# Altium schematic symbol library Schlib1.SchLib: 40 symbols (part 1 of 2)
Pins are listed as number, name and electrical type; pins without a type are passive.

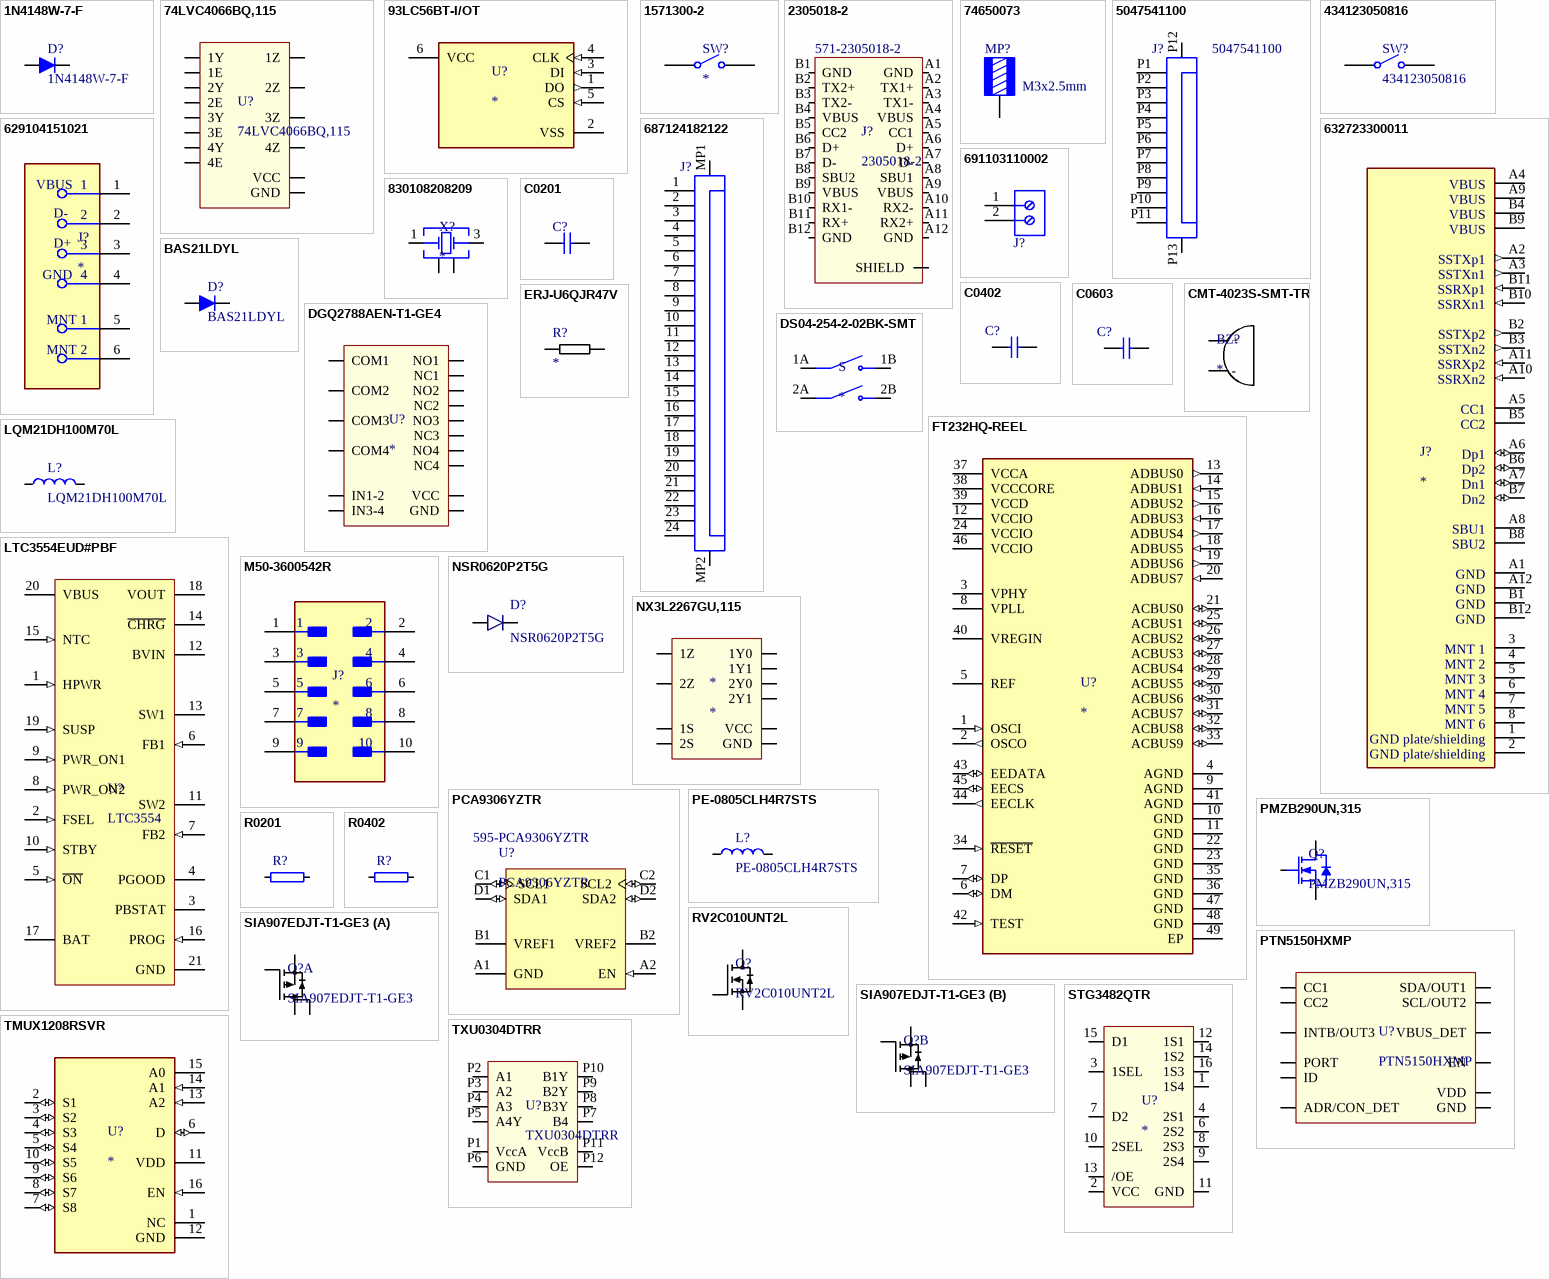
[diagram p0: symbols 1N4148W-7-F to TXU0304DTRR]

## 1N4148W-7-F
designator D?
VR=100V IF=300mA Trr=4ns P=400mW; Manufacturer: Diodes; Forward Current: 150mA; Reverse Recovery Time: 4ns; Max Repetitive Reverse Voltage (Vrrm): 100V; Max Forward Surge Current (Ifsm): 2A; Element Configuration: Single; Max Reverse Current: 1uA; Forward Voltage: 1.25V; Average Rectified Current: 300mA; Power Dissipation: 400mW; Polarity: Standard; Voltage Rating (DC): 75V; Capacitance: 2pF; Supplier 1: Mouser; Manufacturer Part Number: 1N4148W-7-F; RoHS: Yes; Category: Rectifier Diodes; Pricing 1: 1=0.18000, 10=0.16800, 50=0.16800, 100=0.09200, 500=0.05700, 1000=0.03900, 3000=0.02900, 9000=0.02500, 10000=0.02500, 24000=0.02200, 45000=0.01800 (USD); Mount: Surface Mount; Number of Pins: 2; Weight: 0.000353oz; Contact Plating: Tin,Matte; Min Operating Temperature: -65°C; Max Operating Temperature: 150°C; Packaging: Tape and Reel; Peak Non-Repetitive Surge Current: 2A; Voltage: 100V; Max Surge Current: 2A; Package Quantity: 3000; Recovery Time: 4ns; Power Rating: 400mW; Current Rating: 150mA; Output Current: 150mA; Max Reverse Voltage (DC): 100V; Series: -; Reverse Recovery Time-Max: 4ns; Length: 2.85mm; Width: 1.7mm; Height: 1.25mm; Radiation Hardening: No; REACH SVHC: No SVHC; RoHS Compliant: Yes; Lead Free: Lead Free; ComponentLink1URL: https://datasheet.ciiva.com/1179/1915529-1179304.pdf?src-supplier=Element14; ComponentLink1Description: https://datasheet.ciiva.com/1179/1915529-1179304.pdf?src-supplier=Element14; ComponentLink2URL: https://datasheet.ciiva.com/22695/1915529-22695239.pdf?src-supplier=Element14; ComponentLink2Description: https://datasheet.ciiva.com/22695/1915529-22695239.pdf?src-supplier=Element14; ComponentLink3URL: https://datasheet.ciiva.com/8300/ds30086-8300392.pdf?src-supplier=Avnet; ComponentLink3Description: https://datasheet.ciiva.com/8300/ds30086-8300392.pdf?src-supplier=Avnet; ComponentLink4URL: https://datasheet.ciiva.com/15219/getdatasheetpartid-110030-15219548.pdf?src-supplier=Verical; ComponentLink4Description: https://datasheet.ciiva.com/15219/getdatasheetpartid-110030-15219548.pdf?src-supplier=Verical; ComponentLink5URL: https://datasheet.ciiva.com/8303/ds30086-8303197.pdf?src-supplier=Avnet; ComponentLink5Description: https://datasheet.ciiva.com/8303/ds30086-8303197.pdf?src-supplier=Avnet; ComponentLink6URL: https://datasheet.ciiva.com/911/ds30086-911735.pdf?src-supplier=Digi-Key; ComponentLink6Description: https://datasheet.ciiva.com/911/ds30086-911735.pdf?src-supplier=Digi-Key; ComponentLink7URL: https://datasheet.ciiva.com/911/ds30086-911736.pdf?src-supplier=Digi-Key; ComponentLink7Description: https://datasheet.ciiva.com/911/ds30086-911736.pdf?src-supplier=Digi-Key; ComponentLink8URL: https://datasheet.ciiva.com/911/ds30086-911734.pdf?src-supplier=Digi-Key; ComponentLink8Description: https://datasheet.ciiva.com/911/ds30086-911734.pdf?src-supplier=Digi-Key; ComponentLink9URL: https://datasheet.ciiva.com/4435/ds30086-4435128.pdf?src-supplier=Mouser; ComponentLink9Description: https://datasheet.ciiva.com/4435/ds30086-4435128.pdf?src-supplier=Mouser; Supplier Part Number 1: 621-1N4148W-F
footprint DIOD-SOD123-2_V (SOD123, 2-Leads, Body 2.7x1.55mm, Height 1.45mm)
pins: 1 A, 2 K

## 74LVC4066BQ,115
designator U?
74LVC Series 5.5 V Quad Bilateral Switch - DHVQFN-14; Manufacturer: Nexperia; Supplier 1: Mouser; Manufacturer Part Number: 74LVC4066BQ,115; RoHS: Yes; Category: Decoders and Multiplexers; Stock 1: 3323; Pricing 1: 1=0.67000, 10=0.56700, 50=0.56700, 100=0.44600, 1000=0.29700, 10000=0.28800 (USD); ComponentLink1URL: https://assets.nexperia.com/documents/data-sheet/74LVC4066.pdf?src-supplier=Digi-Key; ComponentLink1Description: https://assets.nexperia.com/documents/data-sheet/74LVC4066.pdf?src-supplier=Digi-Key; Supplier Part Number 1: 771-LVC4066BQ115
footprint 74LVC4066BQ,115 (Analogue Switch ICs QUAD ANALOG SW.); pin to pad P7>P7+P15
pins: P1 1Y, P2 1Z, P3 2Z, P4 2Y, P5 2E, P6 3E, P7 GND, P8 3Y, P9 3Z, P10 4Z, P11 4Y, P12 4E, P13 1E, P14 VCC

## 93LC56BT-I/OT
designator U?
RES 1 OHM 1/2W 5% AXIAL; Manufacturer: Microchip; Manufacturer Part Number: 93LC56BT-I/OT; Density: 2Kb; Max Supply Voltage: 5.5V; Min Supply Voltage: 2.5V; Interface: MICROWIRE,Serial; Max Frequency: 2MHz; Organization: 128X16; Access Time: 250ns; Nominal Supply Current: 2mA; Memory Type: EEPROM; Write Protection: YES; Write Cycle Time-Max (tWC): 6ms; Supplier 1: Mouser; RoHS: No; Category: EEPROM; Pricing 1: 1=0.32000, 10=0.32000, 50=0.32000, 100=0.32000, 1000=0.32000, 10000=0.32000 (USD); Mount: Surface Mount; Case/Package: SOT-23; Number of Pins: 6; Contact Plating: Tin,Matte; Min Operating Temperature: -40°C; Max Operating Temperature: 85°C; Packaging: Tape and Reel; Package Quantity: 3000; Memory Size: 2Kb; Frequency: 2MHz; Access Time-Max: 250ns; Supply Current: 2mA; Supply Voltage-Nom: 5.5V; Length: 3.1mm; Width: 1.8mm; Height: 1.3mm; Radiation Hardening: No; REACH SVHC: No SVHC; Lead Free: Lead Free; ComponentLink1URL: https://datasheet.ciiva.com/3185/jp013939-3185519.pdf?src-supplier=Avnet; ComponentLink1Description: https://datasheet.ciiva.com/3185/jp013939-3185519.pdf?src-supplier=Avnet; ComponentLink2URL: https://datasheet.ciiva.com/16216/filehandler-aspxddocname-en013939-16216574.pdf?src-supplier=Future+Electronics; ComponentLink2Description: https://datasheet.ciiva.com/16216/filehandler-aspxddocname-en013939-16216574.pdf?src-supplier=Future+Electronics; ComponentLink3URL: https://datasheet.ciiva.com/48496/jp013939-48496476.pdf?src-supplier=Avnet; ComponentLink3Description: https://datasheet.ciiva.com/48496/jp013939-48496476.pdf?src-supplier=Avnet; Supplier Part Number 1: 579-93LC56BT-I/OT
footprint 93LC56BT-I/OT_sot23-6
pins: 1 DO (out), 2 VSS (power), 3 DI (in), 4 CLK (in), 5 CS (in), 6 VCC (power)

## 1571300-2
designator SW?
Switch Tactile OFF (ON) SPST Round Button Gull Wing 0.05A 12VDC 1.27N SMD Loose Piece; Manufacturer: TE Connectivity; Manufacturer Part Number: 1571300-2; Supplier 1: Mouser; RoHS: Yes; Category: Pushbutton Switches; Stock 1: 17816; Pricing 1: 1=0.69000, 10=0.66000, 50=0.62500, 100=0.55100, 1000=0.41800, 10000=0.39300 (USD); ComponentLink1URL: https://datasheet.ciiva.com/2901/eng-cd-1571300-j-2901544.pdf?src-supplier=Digi-Key; ComponentLink1Description: https://datasheet.ciiva.com/2901/eng-cd-1571300-j-2901544.pdf?src-supplier=Digi-Key; ComponentLink2URL: https://datasheet.ciiva.com/30102/eng-cat-1308390-0904-e26-e28-30102661.pdf?src-supplier=Onlinecomponents.com; ComponentLink2Description: https://datasheet.ciiva.com/30102/eng-cat-1308390-0904-e26-e28-30102661.pdf?src-supplier=Onlinecomponents.com; ComponentLink3URL: https://datasheet.ciiva.com/15226/getdatasheetpartid-240878-15226635.pdf?src-supplier=Verical; ComponentLink3Description: https://datasheet.ciiva.com/15226/getdatasheetpartid-240878-15226635.pdf?src-supplier=Verical; ComponentLink4URL: https://datasheet.ciiva.com/8164/eng-cs-1308111-1-switches-core-program-catalog-0308-8164774.pdf?src-supplier=Avnet; ComponentLink4Description: https://datasheet.ciiva.com/8164/eng-cs-1308111-1-switches-core-program-catalog-0308-8164774.pdf?src-supplier=Avnet; Supplier Part Number 1: 571-15713002
footprint 1571300-2
pins: P1 1, P2 2

## 2305018-2
designator J?  Supplier Part Number 1: 571-2305018-2
Usb 3.1 Type C, 10GBPS, Receptacle, Rigusb Connectors Usb Type C, Rec IPX8 on Board Dual SMT; Manufacturer: TE Connectivity AMP; Number of Contacts: 24; Number of Ports: 1; Current Rating: 1.25A; Voltage Rating: 30V; Shielding: Shielded; Ratings: Waterproof; Supplier 1: Mouser; Manufacturer Part Number: 2305018-2; RoHS: Yes; Category: USB Connectors; Stock 1: 85836; Pricing 1: 1=3.00000, 10=2.52000, 50=2.52000, 100=2.40000, 250=2.18000, 800=1.85000, 1000=1.85000, 2400=1.77000, 4800=1.71000, 10000=1.77000 (USD); Mount: Surface Mount,Through Hole; Contact Plating: Gold; Insulation Color: Black; Min Operating Temperature: -40°C; Max Operating Temperature: 85°C; Connector Type: USB; Packaging: Tape and Reel; Gender: Receptacle; Termination: Solder; Flammability Rating: UL94 V-0; RoHS Compliant: Yes; ComponentLink1URL: http://www.farnell.com/datasheets/2611889.pdf?src-supplier=Farnell; ComponentLink1Description: http://www.farnell.com/datasheets/2611889.pdf?src-supplier=Farnell; ComponentLink2URL: https://www.te.com/commerce/DocumentDelivery/DDEController?Action=srchrtrv&DocNm=2305018&DocType=Customer+Drawing&DocLang=English&src-supplier=Digi-Key; ComponentLink2Description: https://www.te.com/commerce/DocumentDelivery/DDEController?Action=srchrtrv&DocNm=2305018&DocType=Customer+Drawing&DocLang=English&src-supplier=Digi-Key; ComponentLink3URL: http://www.farnell.com/datasheets/2611889.pdf?src-supplier=Newark; ComponentLink3Description: http://www.farnell.com/datasheets/2611889.pdf?src-supplier=Newark
footprint 2305018-2 (USB TYPE C, REC IPX8 ON BOARD DUAL SMT); pin to pad SH1>SH1+SH2+SH3+SH4+SH5+SH6
pins: A1 GND, A2 TX1+, A3 TX1-, A4 VBUS, A5 CC1, A6 D+, A7 D-, A8 SBU1, A9 VBUS, A10 RX2-, A11 RX2+, A12 GND, B1 GND, B2 TX2+, B3 TX2-, B4 VBUS, B5 CC2, B6 D+, B7 D-, B8 SBU2, B9 VBUS, B10 RX1-, B11 RX+, B12 GND, SH1 SHIELD

## 74650073
designator MP?, comment M3x2.5mm
WP-THRBU REDCUBE THR internal through-hole thread, 7x7mm, M3x2.5mm, 50A; Manufacturer Part Number: 74650073; Manufacturer: Wurth Elektronik; Pin Number: 4; Thread: M3; Surface: Tin; Thread Length: 2.5mm; ComponentLink1Description: Manufacturer; ComponentLink1URL: http://www.we-online.de; ComponentLink2Description: Datasheet; ComponentLink2URL: https://www.we-online.com/catalog/datasheet/74650073.pdf; Operating Temperature: -55 to +150degC; Height: 3mm; Material: Brass; Packaging: Bulk; Mounting Technology: SMT; Rated Current: 50A; Published Date: June 2021; Size: 7x7mm
footprint 74650073
pins: 1

## 5047541100
designator J?
Conn FFC/FPC Connector SKT 11 POS 0.3mm Solder RA SMD Easy-On™ T/R; Manufacturer Part Number: 687124182122; Manufacturer: Wurth Elektronik; Pitch: 0.5mm; Contact Resistance: 30mOhm; Pin Number: 24; Working Voltage: 50VAC; Rated Current: 0.5A; ComponentLink1Description: Manufacturer; ComponentLink1URL: http://www.we-online.de; ComponentLink2Description: Datasheet; ComponentLink2URL: https://katalog.we-online.com/em/datasheet/687124182122.pdf; Packaging: Tape and Reel; Published Date: March 2021; Mounting Technology: SMT; Operating Temperature: -25 to +85degC; Length: 14mm; Type: Horizontal; Supplier 1: Mouser; RoHS: No; Category: FFC / FPC; Stock 1: 21094; Pricing 1: 1=0.78000, 10=0.62000, 50=0.62000, 100=0.51700, 500=0.51200, 1000=0.51200, 5000=0.41900, 10000=0.41100, 25000=0.35200 (USD); ComponentLink3URL: https://www.molex.com/pdm_docs/ps/PS-504754-002.pdf?src-supplier=Digi-Key; ComponentLink3Description: https://www.molex.com/pdm_docs/ps/PS-504754-002.pdf?src-supplier=Digi-Key; Supplier Part Number 1: 538-504754-1100
footprint 5047541100 (Connector FPC11)
pins: P1 1, P2 2, P3 3, P4 4, P5 5, P6 6, P7 7, P8 8, P9 9, P10 10, P11 11, P12 MP1, P13 MP2

## 434123050816
designator SW?
Switch Tactile Spst-no 0.05A 12V; Manufacturer: Wurth Electronics; Mechanical Life: 50000Cycles; Actuator Material: Polymer,Liquid Crystal Polymer; Operating Force: 160gf; Contact Resistance: 100mR; Contact Current Rating: 50mA; Illumination Type: Non-Illuminated,Illuminated; Throw Configuration: SPST; Switch Travel: 0.25mm; Switch Function: Off-Mom; Actuator Length: 1.5mm; Supplier 1: Mouser; Manufacturer Part Number: 434123050816; RoHS: Yes; Category: Tactile Switches; Stock 1: 2599; Pricing 1: 1=0.54000, 10=0.54000, 50=0.54000, 100=0.54000, 750=0.43300, 1000=0.43300, 1500=0.36700, 10000=0.36700 (USD); Mount: Surface Mount; Contact Material: Stainless Steel,Steel; Min Operating Temperature: -40°C; Max Operating Temperature: 85°C; Current Rating: 50mA; Packaging: Tape and Reel; Termination: Solder; Insulation Resistance: 100MR; Series: WS-TASV; Contact Type: 1 maker; Length: 7.2mm; Width: 3.5mm; Height: 5mm; REACH SVHC: No SVHC; Lead Free: Lead Free; RoHS Compliant: Yes; ComponentLink1URL: https://datasheet.ciiva.com/1532/434123043816-1532528.pdf?src-supplier=Element14; ComponentLink1Description: https://datasheet.ciiva.com/1532/434123043816-1532528.pdf?src-supplier=Element14; ComponentLink2URL: https://datasheet.ciiva.com/30466/0900766b8126b636-30466780.pdf?src-supplier=RSComponents; ComponentLink2Description: https://datasheet.ciiva.com/30466/0900766b8126b636-30466780.pdf?src-supplier=RSComponents; ComponentLink3URL: https://datasheet.ciiva.com/29123/711760-da-01-en-taster-434123050816-29123824.pdf?src-supplier=Conrad; ComponentLink3Description: https://datasheet.ciiva.com/29123/711760-da-01-en-taster-434123050816-29123824.pdf?src-supplier=Conrad; ComponentLink4URL: https://datasheet.ciiva.com/1633/434123043816-1633968.pdf?src-supplier=Farnell; ComponentLink4Description: https://datasheet.ciiva.com/1633/434123043816-1633968.pdf?src-supplier=Farnell; ComponentLink5URL: https://datasheet.ciiva.com/22695/434123043816-22695550.pdf?src-supplier=Element14; ComponentLink5Description: https://datasheet.ciiva.com/22695/434123043816-22695550.pdf?src-supplier=Element14; Supplier Part Number 1: 710-434123050816
footprint 434123050816 (6.0*3.5mm vertical type, J-Bend SMD, height 5.0mm, black actuator, 160gf, T&R)
pins: 1, 2

## 629104151021
designator J?
USB 2.0 Type A Receptacle WR-COM, Horizontal, SMT, with Pegs; Manufacturer: Wurth Electronics; Manufacturer Part Number: 629104151021; Number of Contacts: 4; USB Standard: USB 2.0; Supplier 1: Mouser; RoHS: Yes; Category: Connectors; Stock 1: 3535; Pricing 1: 1=2.61000, 10=2.61000, 50=2.39000, 100=2.14000, 300=1.88000, 600=1.87000, 1000=1.87000, 10000=1.87000 (USD); Mount: Surface Mount,Horizontal; Contact Material: Copper Alloy; Contact Plating: Gold; Packaging: Tape and Reel; Connector Type: USB; Gender: Receptacle; Termination: SMD/SMT; Orientation: Right Angle; Features: Shielded; REACH SVHC: Unknown; RoHS Compliant: Yes; ComponentLink1URL: https://datasheet.ciiva.com/48416/629104151021-48416055.pdf?src-supplier=Distrelec; ComponentLink1Description: https://datasheet.ciiva.com/48416/629104151021-48416055.pdf?src-supplier=Distrelec; Supplier Part Number 1: 710-629104151021
footprint FP-629104151021-MFG
pins: 1, 2, 3, 4, 5 MNT 1, 6 MNT 2
text: VBUS; D-; D+; GND

## 632723300011
designator J?
Conn USB 3.1 Type C RCP 24 POS 0.5mm/0.4mm Solder RA SMD/Thru-Hole 24 Terminal 1 Port T/R; Manufacturer: Wurth Electronics; Manufacturer Part Number: 632723300011; Number of Contacts: 24; Gender: Receptacle; Supplier 1: Mouser; RoHS: Yes; Category: Connectors; Stock 1: 33020; Pricing 1: 1=4.37000, 10=4.06000, 50=3.42000, 100=3.15000, 700=2.72000, 1000=2.72000, 1400=2.71000, 10000=2.71000 (USD); Mount: Surface Mount,Through Hole; Packaging: Tape and Reel; Connector Type: USB; RoHS Compliant: Yes; ComponentLink1URL: https://www.mouser.com/ds/2/445/632723x00011-782157.pdf?src-supplier=Mouser; ComponentLink1Description: https://www.mouser.com/ds/2/445/632723x00011-782157.pdf?src-supplier=Mouser; ComponentLink2URL: https://katalog.we-online.de/em/datasheet/632723x00011.pdf?src-supplier=Digi-Key; ComponentLink2Description: https://katalog.we-online.de/em/datasheet/632723x00011.pdf?src-supplier=Digi-Key; Supplier Part Number 1: 710-632723300011
footprint FP-632723300011-MFG
pins: 1 GND plate/shielding (power), 2 GND plate/shielding (power), 3 MNT 1, 4 MNT 2, 5 MNT 3, 6 MNT 4, 7 MNT 5, 8 MNT 6, A1 GND (power), A2 SSTXp1 (out), A3 SSTXn1 (out), A4 VBUS (power), A5 CC1, A6 Dp1 (io), A7 Dn1 (io), A8 SBU1, A9 VBUS (power), A10 SSRXn2 (in), A11 SSRXp2 (in), A12 GND (power), B1 GND (power), B2 SSTXp2 (out), B3 SSTXn2 (out), B4 VBUS (power), B5 CC2, B6 Dp2 (io), B7 Dn2 (io), B8 SBU2, B9 VBUS (power), B10 SSRXn1 (in), B11 SSRXp1 (in), B12 GND (power)

## 687124182122
designator J?
WR-FPC SMT ZIF Horizontal Dual Contact, pitch 0.5mm, 24p; Manufacturer Part Number: 687124182122; Manufacturer: Wurth Elektronik; Contact Resistance: 30mOhm; Pin Number: 24; Working Voltage: 50VAC; Rated Current: 0.5A; ComponentLink1Description: Manufacturer; ComponentLink1URL: http://www.we-online.de; ComponentLink2Description: Datasheet; ComponentLink2URL: https://katalog.we-online.com/em/datasheet/687124182122.pdf; Packaging: Tape and Reel; Pitch: 0.5mm; Published Date: March 2021; Mounting Technology: SMT; Operating Temperature: -25 to +85degC; Length: 14mm; Type: Horizontal
footprint 687124182122
pins: 1, 2, 3, 4, 5, 6, 7, 8, 9, 10, 11, 12, 13, 14, 15, 16, 17, 18, 19, 20, 21, 22, 23, 24, MP1, MP2

## 691103110002
designator J?  (value not drawn)
WR-TBL Series 1031 Horizontal Entry Modular, Through Hole, pitch 3.5mm, 2p; Manufacturer: Wurth Elektronik; Pin Number: 2; Rated Current: 10A; Working Voltage: 125V; PCB/Cable/Panel: PCB; Modularity: Yes; ComponentLink1Description: Manufacturer Link; ComponentLink1URL: https://www.we-online.com/redexpert/article/691103110002?ad; ComponentLink2Description: Datasheet; ComponentLink2URL: https://www.we-online.com/redexpert/spec/691103110002?ad; Category: Terminal Blocks; Match Code: WR-TBL; Manufacturer Part Number: 691103110002; Mount: Through Hole; Operating Temperature Max: 105°C; Operating Temperature Min: -40°C; Packaging: Box; Pitch: 3.5mm; Orientation: Horizontal; Application: Pressure Clamp
footprint 691103110002
pins: 1, 2

## 830108208209
designator X?
Manufacturer: Wurth Electronics; Manufacturer Part Number: 830108208209; Supplier 1: Mouser; RoHS: No; Stock 1: 80; Pricing 1: 1=0.65000, 10=0.59800, 50=0.57200, 100=0.54600, 1000=0.46800, 10000=0.41600 (USD); Supplier Part Number 1: 710-830108208209
footprint WE-XTAL_CFPX-218 (Quartz Crystal, size CFPX-218, body 2.5x2mm)
pins: 1 Crystal, 2 GND, 3 Crystal, 4 GND

## BAS21LDYL
designator D?
BAS21LD/SOD882/SOD2; Manufacturer: Nexperia; Supplier 1: Mouser; Manufacturer Part Number: BAS21LDYL; RoHS: No; Stock 1: 752; Pricing 1: 1=0.30000, 10=0.23700, 50=0.23700, 100=0.12600, 1000=0.05700, 10000=0.03900 (USD); Supplier Part Number 1: 771-BAS21LDYL
footprint BAS21LDYL
pins: P1 A, P2 K

## C0201
designator C?  (value not drawn)
footprint CAPC0603X03L_C
pins: 1, 2

## C0402
designator C?  (value not drawn)
footprint CAPC1005X04L
pins: 1, 2

## C0603
designator C?  (value not drawn)
footprint CAPC1608X06L
pins: 1, 2

## CMT-4023S-SMT-TR
designator BZ?
4 mm, 3 Vo-p, 70 dB, Surface Mount (SMT), Magnetic Audio Transducer Buzzer; Manufacturer: CUI; Manufacturer Part Number: CMT-4023S-SMT-TR; Voltage Rating: 3V; Frequency: 4kHz; Operating Supply Current: 90mA; Supplier 1: Mouser; RoHS: No; Category: Audio Products; Mount: Surface Mount; Min Operating Temperature: -20°C; Max Operating Temperature: 70°C; Sensing Method: Magnetic; Packaging: Tape and Reel; Termination: Solder; Length: 4mm; Width: 4mm; Lead Free: Lead Free; ComponentLink1URL: https://www.cui.com/product/resource/digikeypdf/cmt-4023s-smt.pdf?src-supplier=Digi-Key; ComponentLink1Description: https://www.cui.com/product/resource/digikeypdf/cmt-4023s-smt.pdf?src-supplier=Digi-Key; ComponentLink2URL: http://www.cui.com/product/resource/digikeypdf/cmt-4023s-smt.pdf?src-supplier=Digi-Key; ComponentLink2Description: http://www.cui.com/product/resource/digikeypdf/cmt-4023s-smt.pdf?src-supplier=Digi-Key; Supplier Part Number 1: 490-CMT-4023S-SMT-TR
footprint CMT-4023S-SMT-TR (Buzzer)
pins: P1 +, P2 -

## DGQ2788AEN-T1-GE4
designator U?
Analog Switch Quad SPDT Automotive 16-Pin Mini-QFN T/R; Manufacturer: Vishay; Manufacturer Part Number: DGQ2788AEN-T1-GE4; Number of Circuits: 2; On-State Resistance: 500mR; -3db Bandwidth: 338MHz; Supplier 1: Mouser; RoHS: Yes; Category: Interface ICs; Stock 1: 1500; Pricing 1: 1=1.17000, 10=1.04000, 50=0.96000, 100=0.81000, 1000=0.55100, 10000=0.55000 (USD); Number of Pins: 16; Min Operating Temperature: -40°C; Max Operating Temperature: 125°C; Packaging: Tape and Reel; RoHS Compliant: No; ComponentLink1URL: http://www.vishay.com/docs/75683/dgq2788a.pdf?src-supplier=Digi-Key; ComponentLink1Description: http://www.vishay.com/docs/75683/dgq2788a.pdf?src-supplier=Digi-Key; Supplier Part Number 1: 78-DGQ2788AEN-T1-GE4
footprint DGQ2788AEN-T1-GE4
pins: P1 NC2, P2 GND, P3 NO3, P4 COM3, P5 NC3, P6 IN3-4, P7 NO4, P8 COM4, P9 NC4, P10 VCC, P11 NO1, P12 COM1, P13 NC1, P14 IN1-2, P15 NO2, P16 COM2

## DS04-254-2-02BK-SMT
designator S
2 Pole, Flat Actuator, Flat Bottom, SMT Pin, DIP Switch; MF: CUI Devices; MP: DS04-254-2-02BK-SMT; SnapEDA_Link: https://www.snapeda.com/parts/DS04-254-2-02BK-SMT/CUI%20Devices/view-part/4467284/?ref=snap; Price: None; Value: *; Availability: Unavailable; Package: None
footprint SW_DS04-254-2-02BK-SMT
pins: 1A COM1, 1B NO1, 2A COM2, 2B NO2

## ERJ-U6QJR47V
designator R?
Anti-Sulfurated Thick Film Chip Resistors, 0.47½, 5%, 0.25W; Manufacturer: Panasonic; Manufacturer Part Number: ERJ-U6QJR47V; Resistance: 470mR; Max Power Dissipation: 250mW; Temperature Coefficient: 150ppm/°C; Supplier 1: Mouser; RoHS: No; Category: Chip SMD Resistors; Stock 1: 10093; Pricing 1: 1=0.51000, 10=0.37200, 50=0.37200, 100=0.15500, 1000=0.07900, 10000=0.07000 (USD); Case/Package: 0805; Case Code (Imperial): 0805; Case Code (Metric): 2012; Min Operating Temperature: -55°C; Max Operating Temperature: 155°C; Features: Automotive AEC-Q200,Anti-Sulfur; Packaging: Cut Tape; Tolerance: 5%; Number of Terminations: 2; Resistor Type: Thick Film; ComponentLink1URL: https://industrial.panasonic.com/cdbs/www-data/pdf/RDP0000/AOA0000C334.pdf?src-supplier=Digi-Key; ComponentLink1Description: https://industrial.panasonic.com/cdbs/www-data/pdf/RDP0000/AOA0000C334.pdf?src-supplier=Digi-Key; Supplier Part Number 1: 667-ERJ-U6QJR47V
footprint R0805
pins: 1, 1

## FT232HQ-REEL
designator U?
Full Speed/High Speed USB Interface Device USB 2.0 3.3V T/R 48-Pin QFN EP; Manufacturer: FTDI; Manufacturer Part Number: FT232HQ-REEL; Data Rate: 12Mbps; Interface: UART; Number of Channels: 1; Max Supply Voltage: 3.63V; Min Supply Voltage: 2.97V; Nominal Supply Current: 60mA; Operating Supply Current: 24mA; Supplier 1: Mouser; RoHS: Yes; Category: Interface ICs; Pricing 1: 1=4.52000, 10=4.34000, 50=3.93000, 100=3.82000, 250=3.73000, 500=3.68000, 1000=3.56000, 6000=3.55000, 10000=3.09000 (USD); Mount: Surface Mount; Case/Package: QFN; Number of Pins: 48; Weight: 0.005309oz; Min Operating Temperature: -40°C; Max Operating Temperature: 85°C; Packaging: Tape and Reel; Package Quantity: 1; Operating Supply Voltage: 3.3V; Supply Current: 60mA; Series: -; Length: 7mm; Width: 7mm; Height: 1.4mm; Radiation Hardening: No; Lead Free: Lead Free; RoHS Compliant: Yes; REACH SVHC: No SVHC; ComponentLink1URL: https://datasheet.ciiva.com/4787/ds-ft232h-11324-4787568.pdf?src-supplier=Mouser; ComponentLink1Description: https://datasheet.ciiva.com/4787/ds-ft232h-11324-4787568.pdf?src-supplier=Mouser; ComponentLink2URL: https://datasheet.ciiva.com/7661/ds-ft232h-7661547.pdf?src-supplier=Element14; ComponentLink2Description: https://datasheet.ciiva.com/7661/ds-ft232h-7661547.pdf?src-supplier=Element14; ComponentLink3URL: https://datasheet.ciiva.com/1787/ds-ft232h-1787045.pdf?src-supplier=Digi-Key; ComponentLink3Description: https://datasheet.ciiva.com/1787/ds-ft232h-1787045.pdf?src-supplier=Digi-Key; ComponentLink4URL: https://datasheet.ciiva.com/1787/ds-ft232h-1787044.pdf?src-supplier=Digi-Key; ComponentLink4Description: https://datasheet.ciiva.com/1787/ds-ft232h-1787044.pdf?src-supplier=Digi-Key; ComponentLink5URL: https://datasheet.ciiva.com/1787/ds-ft232h-1787046.pdf?src-supplier=Digi-Key; ComponentLink5Description: https://datasheet.ciiva.com/1787/ds-ft232h-1787046.pdf?src-supplier=Digi-Key; Supplier Part Number 1: 895-FT232HQ-REEL
footprint FT232HQ
pins: 1 OSCI (in), 2 OSCO (out), 3 VPHY (power), 4 AGND (power), 5 REF, 6 DM (io), 7 DP (io), 8 VPLL (power), 9 AGND (power), 10 GND (power), 11 GND (power), 12 VCCIO (power), 13 ADBUS0 (out), 14 ADBUS1 (in), 15 ADBUS2 (out), 16 ADBUS3 (in), 17 ADBUS4 (out), 18 ADBUS5 (in), 19 ADBUS6 (out), 20 ADBUS7 (in), 21 ACBUS0 (io), 22 GND (power), 23 GND (power), 24 VCCIO (power), 25 ACBUS1 (io), 26 ACBUS2 (io), 27 ACBUS3 (io), 28 ACBUS4 (io), 29 ACBUS5 (io), 30 ACBUS6 (io), 31 ACBUS7 (io), 32 ACBUS8 (io), 33 ACBUS9 (io), 34 ~{RESET} (in), 35 GND (power), 36 GND (power), 37 VCCA (power), 38 VCCCORE (power), 39 VCCD (power), 40 VREGIN (power), 41 AGND (power), 42 TEST (in), 43 EEDATA (io), 44 EECLK (out), 45 EECS (io), 46 VCCIO (power), 47 GND (power), 48 GND (power), 49 EP

## LQM21DH100M70L
designator L?
Inductor Power Chip Shielded Multi-Layer 10uH 20% 1MHz Ferrite 0.3A 0.845Ohm DCR 0805 Automotive T/R; Manufacturer: Murata; Supplier 1: Mouser; Manufacturer Part Number: LQM21DH100M70L; RoHS: No; Category: Fixed Inductors; Stock 1: 80712; Pricing 1: 1=0.27000, 10=0.18200, 50=0.18200, 100=0.15200, 1000=0.10900, 10000=0.09200 (USD); Supplier Part Number 1: 81-LQM21DH100M70L
footprint FP-LQM21DH_70-MFG
pins: 1, 2

## LTC3554EUD#PBF
designator U?, comment LTC3554
IC USB POWER MANAGER 20UTQFN; Manufacturer: Analog Devices / Linear Technology; Manufacturer Part Number: LTC3554EUD#PBF; Operating Supply Current: 10uA; Max Input Voltage: 5.5V; Min Input Voltage: 4.35V; Number of Cells: 1; Number of Outputs: 2; Supplier 1: Mouser; RoHS: Yes; Category: Power Management ICs; Stock 1: 1043; Pricing 1: 1=6.36000, 10=5.75000, 50=5.48000, 100=4.76000, 1000=4.13000, 10000=3.77000 (USD); Case/Package: QFN; Number of Pins: 20; Min Operating Temperature: -40°C; Max Operating Temperature: 85°C; Package Quantity: 121; Packaging: Rail/Tube; Series: PowerPath™; Operating Supply Voltage: 5.5V; Length: 3mm; Radiation Hardening: No; RoHS Compliant: Yes; REACH SVHC: No SVHC; ComponentLink1URL: https://datasheet.ciiva.com/1644/1726404-1644763.pdf?src-supplier=Newark; ComponentLink1Description: https://datasheet.ciiva.com/1644/1726404-1644763.pdf?src-supplier=Newark; ComponentLink2URL: https://datasheet.ciiva.com/1512/1712336-1512448.pdf?src-supplier=Element14; ComponentLink2Description: https://datasheet.ciiva.com/1512/1712336-1512448.pdf?src-supplier=Element14; ComponentLink3URL: https://datasheet.ciiva.com/15104/getdatasheetpartid-447198-15104413.pdf?src-supplier=Verical; ComponentLink3Description: https://datasheet.ciiva.com/15104/getdatasheetpartid-447198-15104413.pdf?src-supplier=Verical; ComponentLink4URL: https://datasheet.ciiva.com/1964/27687-1964823.pdf?src-supplier=Digi-Key; ComponentLink4Description: https://datasheet.ciiva.com/1964/27687-1964823.pdf?src-supplier=Digi-Key; Supplier Part Number 1: 584-LTC3554EUD#PBF
footprint LT-UD-20_L (QFN, 20-Leads, Body 3.1x3.1mm, Pitch 0.4mm, Thermal Pad 1.65x1.65mm, IPC High Density)
pins: 1 HPWR (in) "High Power Logic Input. When this pin is low the input current limit is set to 100mA and when this pin is driven high it is set to 500mA. The SUSP pin needs to be low for the input current limit circuit to be enabled. This (See Datasheet)", 2 FSEL (in) "Buck Frequency Select. When this pin is low the buck switching frequency is set to 1.125MHz and when this pin is driven high it is set to 2.25MHz.", 3 PBSTAT (hiz) "Pushbutton Status. This open-drain output is a debounced and buffered version of the O\N\ pushbutton input. It may be used to interrupt a microprocessor.", 4 PGOOD (hiz) "Power Good. This open-drain output indicates that all enabled buck regulators have been in regulation for at least 230ms.", 5 ~{ON} (in) "Pushbutton Input. Weak internal pull-up forces a high state if O\N\ is left floating. A normally open pushbutton is connected from O\N\ to ground to force a low state on this pin.", 6 FB1 (in) "Feedback Input for Step-Down Switching Regulator 1. This pin servos to a fixed voltage of 0.8V when the control loop is complete.", 7 FB2 (in) "Feedback Input for Step-Down Switching Regulator 2. This pin servos to a fixed voltage of 0.8V when the control loop is complete.", 8 PWR_ON2 (in) "Logic Input Enables Step-Down Switching Regulator 2.", 9 PWR_ON1 (in) "Logic Input Enables Step-Down Switching Regulator 1.", 10 STBY (in) "Standby Mode. When this pin is driven high the part enters a very low quiescent current mode. The buck regulators are each limited to 5mA maximum load current in this mode.", 11 SW2 (power) "Power Transmission (Switch) Pin for Step-Down Switching Regulator 2.", 12 BVIN (power) "Power Input for Step-Down Switching Regulators 1 and 2. It is recommended that this pin be connected to the VOUT pin. It should be bypassed with a low impedance multilayer ceramic capacitor.", 13 SW1 (power) "Power Transmission (Switch) Pin for Step-Down Switching Regulator 1.", 14 ~{CHRG} (hiz) "Open-Drain Charge Status Output. This pin indicates the status of the battery charger. It is internally pulled low while charging. Once the battery charge current reduces to less than one-tenth of the programmed charge (See Datasheet)", 15 NTC (in) "The NTC pin connects to a battery’s thermistor to determine if the battery is too hot or too cold to charge. If the battery’s temperature is out of range, charging is paused until it drops back into range. A low dr(See Datasheet)", 16 PROG (in) "Charge Current Program and Charge Current Monitor Pin. Connecting a resistor from PROG to ground programs the charge current as given by:ICHG (A)=750V/RPROG.If sufficient input power is available in constant-current mode, (See Datasheet)", 17 BAT (power) "Single-Cell Li-Ion Battery Pin. Depending on available power and load, a Li-Ion battery on BAT will either deliver system power to VOUT through the ideal diode or be charged from the battery charger.", 18 VOUT (power) "Output Voltage of the PowerPath Controller and Input Voltage of the Battery Charger. The majority of the portable products should be powered from VOUT.", 19 SUSP (in) "Suspend Mode Logic Input. If this pin is driven high the input current limit path is disabled. In this state the circuit draws negligible power from the VBUS pin. Any load at the VOUT pin is provided by the battery through (See Datasheet)", 20 VBUS (power) "USB Input Voltage. VBUS will usually be connected to the USB port of a computer or a DC output wall adapter. VBUS should be bypassed with a low impedance multilayer ceramic capacitor.", 21 GND (power) "Ground. The exposed package pad is ground and must be soldered to the PC board for proper functionality and for maximum heat transfer."

## M50-3600542R
designator J?
Conn Unshrouded Header M 10 POS 1.27mm Solder ST Top Entry SMD T/R; Manufacturer: Harwin; Manufacturer Part Number: M50-3600542R; Number of Contacts: 10; Max Current Rating: 1A; Contact Resistance: 30mR; Gender: Male; Supplier 1: Mouser; RoHS: Yes; Category: Headers and Wire Housings; Stock 1: 26649; Pricing 1: 1=1.46000, 10=1.22000, 50=1.22000, 100=1.08000, 500=0.92400, 800=0.82600, 1000=0.82600, 2400=0.77100, 4800=0.74700, 9600=0.73900, 10000=0.73900, 24800=0.70200 (USD); Contact Plating: Gold; Contact Material: Copper Alloy; Housing Material: Thermoplastic; Min Operating Temperature: -40°C; Max Operating Temperature: 105°C; Number of Rows: 2; Termination: Solder; Orientation: Straight; Length: 6.35mm; Pitch: 1.27mm; Depth: 3.41mm; Radiation Hardening: No; RoHS Compliant: Yes; ComponentLink1URL: http://www.harwin.com/include/downloads/pdfs/2010PAGE95.PDF?src-supplier=Avnet; ComponentLink1Description: http://www.harwin.com/include/downloads/pdfs/2010PAGE95.PDF?src-supplier=Avnet; Supplier Part Number 1: 855-M50-3600542R
footprint M50-3600542R
pins: 1, 2, 3, 4, 5, 6, 7, 8, 9, 10

## NSR0620P2T5G
designator D?
20V schottky barrier diode, Vf 350 mV @ 100 mA, Ir 2.0 µA @ 10 V, If 500 mA; Manufacturer: ON Semiconductor; Part number IPS: 00000009952; Note: N.A.; Artikkelnr Noca: 10029169; Pad Count: 2; Part Number: NSR0620P2T5G; Manufacturer Part Number: NSR0620P2T5G; LatestRevisionDate: 2016-07-07; Published: 2016-07-07; Value: NSR0620P2T5G; Footprint Doc: SOD-923; ComponentLink1URL: N.A.; ComponentLink1Description: Datasheet; ComponentLink2URL: N.A.; ComponentLink2Description: Supplier link; HelpURL: http://www.onsemi.com/pub_link/Collateral/NSR0620P2-D.PDF; Supplier 1: Digi-Key; Supplier Part Number 1: NSR0620P2T5GOSCT-ND; Supplier 2: N.A.; Supplier Part Number 2: N.A.; Component Class: Semiconductors; PartId: 101300131
footprint SODFL100X40-2N
pins: 1 C, 2 A

## NX3L2267GU,115
designator *
NX3L2267 Series 4.3 V 750 mOhm Low-Ohmic Dual SPDT Analog Switch - XQFN-10; Manufacturer: NXP Semiconductors; Manufacturer Part Number: NX3L2267GU,115; Min Supply Voltage: 1.4V; Max Supply Voltage: 4.3V; Number of Inputs: 2; Number of Outputs: 4; Operating Supply Voltage: 3V; Max Power Dissipation: 250mW; On-State Resistance: 750mR; Operating Supply Current: 150nA; Turn-On Delay Time: 120ns; Turn-Off Delay Time: 90ns; Supply Type: Single; Nominal Supply Current: 3uA; Polarity: Non-Inverting; High Level Output Current: 500mA; Supplier 1: Mouser; RoHS: Yes; Category: Decoders and Multiplexers; Mount: Surface Mount; Number of Pins: 10; Contact Plating: Gold; Min Operating Temperature: -40°C; Max Operating Temperature: 125°C; Package Quantity: 1; Packaging: Tape and Reel; Number of Channels: 2; Power Dissipation: 250mW; Throw Configuration: SPDT; Low Level Output Current: 500mA; Series: -; Supply Current: 3uA; Radiation Hardening: No; Lead Free: Lead Free; RoHS Compliant: Yes; ComponentLink1URL: https://datasheet.ciiva.com/11580/nx3l2267-11580994.pdf?src-supplier=Avnet; ComponentLink1Description: https://datasheet.ciiva.com/11580/nx3l2267-11580994.pdf?src-supplier=Avnet; ComponentLink2URL: https://datasheet.ciiva.com/1667/nx3l2267-1667288.pdf?src-supplier=Digi-Key; ComponentLink2Description: https://datasheet.ciiva.com/1667/nx3l2267-1667288.pdf?src-supplier=Digi-Key; ComponentLink3URL: https://datasheet.ciiva.com/1667/nx3l2267-1667289.pdf?src-supplier=Digi-Key; ComponentLink3Description: https://datasheet.ciiva.com/1667/nx3l2267-1667289.pdf?src-supplier=Digi-Key; ComponentLink4URL: https://datasheet.ciiva.com/1667/nx3l2267-1667290.pdf?src-supplier=Digi-Key; ComponentLink4Description: https://datasheet.ciiva.com/1667/nx3l2267-1667290.pdf?src-supplier=Digi-Key; ComponentLink5URL: https://datasheet.ciiva.com/16350/nx3l2267-16350415.pdf?src-supplier=Future+Electronics; ComponentLink5Description: https://datasheet.ciiva.com/16350/nx3l2267-16350415.pdf?src-supplier=Future+Electronics; Supplier Part Number 1: 771-NX3L2267GU115
footprint NX3L2267GU,115
pins: P1 1Y1, P2 2Y0, P3 2Y1, P4 GND, P5 2Z, P6 2S, P7 1S, P8 1Z, P9 VCC, P10 1Y0

## PCA9306YZTR
designator U?  Supplier Part Number 1: 595-PCA9306YZTR
PCA9306 2-BIT Bidirectional I2C; Manufacturer: Texas Instruments; On-Chip Power-on-Reset: No; Vcc range(V): 0 to 5.5; 5V Tolerant I/O: Yes; Function: Voltage Translator; Max Frequency(kHz): 400; SubFamily: I2C Special Function; No. of Outputs: 2; Eco-Plan: Green (RoHS & no Sb/Br); tpd max(ns): 1.5; Rating: Catalog; Min Supply Voltage: 1.2V; Max Supply Voltage: 5.5V; Propagation Delay: 0.3ns; Logic Function: Translator; ComponentLink2Description: Package Specification; PackageVersion: revF, Oct-2006; Mounting Technology: Surface Mount; Open Drain I/O Type: Yes; PackageReference: YZT8; PackageDescription: 8-Ball Die-Size Ball Grid Array, 1.9 x 0.9 mm Body, 0.5 mm Pitch, Pb-Free; ComponentLink1URL: http://www.ti.com/general/docs/lit/getliterature.tsp?genericPartNumber=PCA9306&fileType=pdf; ComponentLink2URL: http://www.ti.com/litv/pdf/mpds049b; DatasheetVersion: SCPS113J; fSCLK(Max)(MHz): 400; Enable Pin: Yes; ComponentLink1Description: Datasheet; PartNumber: PCA9306YZTR; Supplier 1: Mouser; Manufacturer Part Number: PCA9306YZTR; RoHS: Yes; Category: Voltage Level Shifters; Pricing 1: 1=0.97000, 10=0.87600, 25=0.83100, 50=0.83100, 100=0.68300, 250=0.63900, 500=0.56400, 1000=0.44600, 10000=0.44600 (USD); Number of Pins: 8; Weight: 8.1E-05oz; Contact Plating: Copper,Tin,Silver; Min Operating Temperature: -40°C; Max Operating Temperature: 85°C; Package Quantity: 3000; Number of Channels: 2; Packaging: Tape and Reel; Number of Bits: 2; Output Type: I2C; Series: -; Number of Outputs: 2; REACH SVHC: No SVHC; Lead Free: Lead Free; RoHS Compliant: Yes; ComponentLink3URL: https://datasheet.ciiva.com/1504/1862428-1504150.pdf?src-supplier=Element14; ComponentLink3Description: https://datasheet.ciiva.com/1504/1862428-1504150.pdf?src-supplier=Element14; ComponentLink4URL: https://datasheet.ciiva.com/1899/pca9306-1899336.pdf?src-supplier=Digi-Key; ComponentLink4Description: https://datasheet.ciiva.com/1899/pca9306-1899336.pdf?src-supplier=Digi-Key; ComponentLink5URL: https://datasheet.ciiva.com/1899/pca9306-1899335.pdf?src-supplier=Digi-Key; ComponentLink5Description: https://datasheet.ciiva.com/1899/pca9306-1899335.pdf?src-supplier=Digi-Key; ComponentLink6URL: https://datasheet.ciiva.com/1899/pca9306-1899337.pdf?src-supplier=Digi-Key; ComponentLink6Description: https://datasheet.ciiva.com/1899/pca9306-1899337.pdf?src-supplier=Digi-Key
footprint PCA9306YZTR (BGA, 8-Leads, Body 1.9x0.9mm, Pitch 0.5mm)
pins: A1 GND (power) "Ground, 0  V", A2 EN (in) "Switch enable input", B1 VREF1 (power) "Low-voltage-side reference supply voltage for SCL1 and SDA1", B2 VREF2 (power) "High-voltage-side reference supply voltage for SCL2 and SDA2", C1 SCL1 (io) "Serial clock, low-voltage side", C2 SCL2 (io) "Serial clock, high-voltage side", D1 SDA1 (io) "Serial data, low-voltage side", D2 SDA2 (io) "Serial data, high-voltage side"

## PE-0805CLH4R7STS
designator L?
wire wound chip inductor, 4, 700.00 nh, +/-20%, 25 mHz, RoHS; Manufacturer: Pulse; Supplier 1: Mouser; Manufacturer Part Number: PE-0805CLH4R7STS; RoHS: Yes; Category: Fixed Inductors; Stock 1: 20462; Pricing 1: 1=0.28000, 10=0.21900, 50=0.21900, 100=0.16500, 1000=0.12600, 10000=0.09100 (USD); Supplier Part Number 1: 673-PE-0805CLH4R7STS
footprint L0805
pins: 1, 2

## PMZB290UN,315
designator Q?
PMZB290UN - 20 V, single N-channel Trench MOSFET; Manufacturer: NXP Semiconductors; Rise Time: 10ns; Continuous Drain Current (ID): 1A; Gate to Source Voltage (Vgs): 8V; Turn-On Delay Time: 4.5ns; Turn-Off Delay Time: 18.5ns; Fall Time: 5ns; Rds On Max: 380mR; Input Capacitance: 83pF; Max Dual Supply Voltage: 20V; Max Power Dissipation: 360mW; Supplier 1: Mouser; Manufacturer Part Number: PMZB290UN,315; RoHS: Yes; Category: MOSFETs; Case/Package: DFN; Number of Pins: 3; Min Operating Temperature: -55°C; Max Operating Temperature: 150°C; Package Quantity: 1; Packaging: Tape and Reel; Drain to Source Voltage (Vdss): 20V; Series: -; Radiation Hardening: No; RoHS Compliant: Yes; ComponentLink1URL: https://datasheet.ciiva.com/11165/pmzb290un-11165755.pdf?src-supplier=Avnet; ComponentLink1Description: https://datasheet.ciiva.com/11165/pmzb290un-11165755.pdf?src-supplier=Avnet; ComponentLink2URL: https://datasheet.ciiva.com/25647/pmzb290une-25647430.pdf?src-supplier=Digi-Key; ComponentLink2Description: https://datasheet.ciiva.com/25647/pmzb290une-25647430.pdf?src-supplier=Digi-Key; ComponentLink3URL: https://datasheet.ciiva.com/29742/pmzb290une-29742088.pdf?src-supplier=Digi-Key; ComponentLink3Description: https://datasheet.ciiva.com/29742/pmzb290une-29742088.pdf?src-supplier=Digi-Key; ComponentLink4URL: https://datasheet.ciiva.com/29742/pmzb290une-29742092.pdf?src-supplier=Digi-Key; ComponentLink4Description: https://datasheet.ciiva.com/29742/pmzb290une-29742092.pdf?src-supplier=Digi-Key; Supplier Part Number 1: 771-PMZB290UN,315
footprint NXP-SOT883B_N (SON, 3-Leads, Body 1.05x0.65mm, Pitch 0.35mm, IPC Medium Density)
pins: 1 G "gate", 2 S "source", 3 D "drain"

## PTN5150HXMP
designator U?
Usb Interface IC PTN5150HX/X2QFN12/REEL 13" Q2/; Manufacturer: NXP Semiconductors; Supplier 1: Mouser; Manufacturer Part Number: PTN5150HXMP; RoHS: Yes; Category: Integrated Circuits (ICs); Stock 1: 6997; Pricing 1: 1=1.34000, 10=1.21000, 25=1.15000, 50=1.15000, 100=0.93900, 250=0.87800, 500=0.77600, 1000=0.77000, 10000=0.77000 (USD); Number of Pins: 12; Min Operating Temperature: -40°C; Max Operating Temperature: 85°C; Packaging: Tape and Reel; Interface: USB; ComponentLink1URL: https://www.nxp.com/docs/en/data-sheet/PTN5150.pdf?src-supplier=Digi-Key; ComponentLink1Description: https://www.nxp.com/docs/en/data-sheet/PTN5150.pdf?src-supplier=Digi-Key; ComponentLink2URL: http://www.farnell.com/datasheets/2615733.pdf?src-supplier=Newark; ComponentLink2Description: http://www.farnell.com/datasheets/2615733.pdf?src-supplier=Newark; Supplier Part Number 1: 771-PTN5150HXMP
footprint PTN5150HXMP (USB Interface IC USB Type C (CC) control logic)
pins: P1 CC1, P2 CC2, P3 PORT, P4 VBUS_DET, P5 ADR/CON_DET, P6 INTB/OUT3, P7 SDA/OUT1, P8 SCL/OUT2, P9 ID, P10 GND, P11 EN, P12 VDD

## R0201
designator R?  (value not drawn)
footprint RESC0603X03L_C
pins: 1, 2

## R0402
designator R?  (value not drawn)
footprint RESC1005X04L
pins: 1, 2

## RV2C010UNT2L
designator Q?
MOSFET Transistor, N Channel, 1 A, 20 V, 0.34 ohm, 4.5 V, 1 V RoHS Compliant: Yes; Manufacturer: Rohm; Drain to Source Voltage (Vdss): 20V; Continuous Drain Current (ID): 1A; Rds On Max: 470mR; Input Capacitance: 40pF; Max Power Dissipation: 400mW; Threshold Voltage: 1V; Resistance: 0.34R; Supplier 1: Mouser; Manufacturer Part Number: RV2C010UNT2L; RoHS: Yes; Category: MOSFETs; Stock 1: 3031; Pricing 1: 1=0.39000, 10=0.25100, 50=0.25100, 100=0.16500, 500=0.10900, 1000=0.08400, 2500=0.07700, 10000=0.07700 (USD); Mount: Surface Mount; Number of Pins: 1006; Max Operating Temperature: 150°C; Packaging: Cut Tape; REACH SVHC: No SVHC; RoHS Compliant: Yes; ComponentLink1URL: http://www.farnell.com/datasheets/1945594.pdf?src-supplier=Farnell; ComponentLink1Description: http://www.farnell.com/datasheets/1945594.pdf?src-supplier=Farnell; ComponentLink2URL: http://www.mouser.com/ds/2/348/rv2c010un-e-1139137.pdf?src-supplier=Mouser; ComponentLink2Description: http://www.mouser.com/ds/2/348/rv2c010un-e-1139137.pdf?src-supplier=Mouser; ComponentLink3URL: http://rohmfs.rohm.com/en/techdata_basic/transistor/taping/VML1006_T2L_taping.pdf?src-supplier=Digi-Key; ComponentLink3Description: http://rohmfs.rohm.com/en/techdata_basic/transistor/taping/VML1006_T2L_taping.pdf?src-supplier=Digi-Key; ComponentLink4URL: http://www.rohm.com/web/global/datasheet/RV2C010UN/rv2c010un-e?src-supplier=Digi-Key; ComponentLink4Description: http://www.rohm.com/web/global/datasheet/RV2C010UN/rv2c010un-e?src-supplier=Digi-Key; ComponentLink5URL: http://rohmfs.rohm.com/en/products/databook/datasheet/discrete/transistor/mosfet/rv2c010unt2l.pdf?src-supplier=Avnet; ComponentLink5Description: http://rohmfs.rohm.com/en/products/databook/datasheet/discrete/transistor/mosfet/rv2c010unt2l.pdf?src-supplier=Avnet; ComponentLink6URL: http://www.farnell.com/datasheets/1945594.pdf?src-supplier=Element14; ComponentLink6Description: http://www.farnell.com/datasheets/1945594.pdf?src-supplier=Element14; Supplier Part Number 1: 755-RV2C010UNT2L
footprint DFN65P100X40-3L
pins: 1 G, 2 S, 3 D

## SIA907EDJT-T1-GE3
designator Q?
SiA907EDJT Series Dual P Channel 20 V 0.057 Ohm 7.8 W Mosfet - PowerPAK SC-70-6L; Manufacturer: Vishay Siliconix; Rds On Max: 57mR; Rise Time: 10ns; Drain to Source Voltage (Vdss): 20V; Continuous Drain Current (ID): 4.5A; Max Power Dissipation: 7.8W; Gate to Source Voltage (Vgs): 12V; Turn-Off Delay Time: 30ns; Number of Elements: 2; Power Dissipation: 1.9W; Turn-On Delay Time: 5ns; Drain to Source Breakdown Voltage: -20V; Polarity: P-CHANNEL; Supplier 1: Mouser; Manufacturer Part Number: SIA907EDJT-T1-GE3; RoHS: Yes; Category: MOSFETs; Stock 1: 2602; Pricing 1: 1=0.57000, 10=0.49500, 50=0.49500, 100=0.37000, 500=0.29100, 1000=0.22500, 3000=0.20400, 6000=0.19100, 9000=0.18500, 10000=0.18500 (USD); Mount: Surface Mount; Number of Pins: 6; Weight: 0.000988oz; Min Operating Temperature: -55°C; Max Operating Temperature: 150°C; Packaging: Tape and Reel; Package Quantity: 3000; Drain to Source Resistance: 57mR; Fall Time: 10ns; Number of Channels: 2; On-State Resistance: 57mR; Element Configuration: Dual; Series: TrenchFET®; Drain-source On Resistance-Max: 57mR; Radiation Hardening: No; Lead Free: Contains Lead; RoHS Compliant: Yes; ComponentLink1URL: https://datasheet.ciiva.com/4444/sia907edjt-223688-4444605.pdf?src-supplier=Mouser; ComponentLink1Description: https://datasheet.ciiva.com/4444/sia907edjt-223688-4444605.pdf?src-supplier=Mouser; ComponentLink2URL: https://datasheet.ciiva.com/30021/sia907edjt-30021591.pdf?src-supplier=Avnet; ComponentLink2Description: https://datasheet.ciiva.com/30021/sia907edjt-30021591.pdf?src-supplier=Avnet; Supplier Part Number 1: 78-SIA907EDJT-T1-GE3
footprint FP-C-07431-DUAL-MFG
part A pins: 1 S1, 2 G1, 6 D1, 7 D1
part B pins: 3 D2, 4 S2, 5 G2, 8 D2

## STG3482QTR
designator U?
Low Voltage Dual SP4T Switch with Break-Before-Make Feat.; Manufacturer: STMicroelectronics; Manufacturer Part Number: STG3482QTR; Max Power Dissipation: 1.12W; Max Supply Voltage: 4.3V; Min Supply Voltage: 1.65V; Number of Inputs: 2; Number of Outputs: 8; On-State Resistance: 6.5R; Turn-On Delay Time: 37ns; Turn-Off Delay Time: 23ns; Max Supply Current: 100nA; Supply Type: Single; Bandwidth: 300MHz; Supplier 1: Mouser; RoHS: Yes; Category: Decoders and Multiplexers; Stock 1: 1150; Pricing 1: 1=1.65000, 10=1.49000, 50=1.41000, 100=1.16000, 1000=0.75900, 10000=0.75800 (USD); Mount: Surface Mount; Case/Package: QFN; Number of Pins: 16; Min Operating Temperature: -40°C; Max Operating Temperature: 85°C; Packaging: Tape and Reel; Package Quantity: 1; Number of Channels: 2; Operating Supply Current: 100nA; Power Dissipation: 1.12W; Series: -; Radiation Hardening: No; Lead Free: Lead Free; RoHS Compliant: Yes; ComponentLink1URL: https://datasheet.ciiva.com/4919/cd00146130-114700-4919088.pdf?src-supplier=Mouser; ComponentLink1Description: https://datasheet.ciiva.com/4919/cd00146130-114700-4919088.pdf?src-supplier=Mouser; ComponentLink2URL: https://datasheet.ciiva.com/11579/cd00146130-11579527.pdf?src-supplier=Avnet; ComponentLink2Description: https://datasheet.ciiva.com/11579/cd00146130-11579527.pdf?src-supplier=Avnet; ComponentLink3URL: https://datasheet.ciiva.com/1688/cd00146130-1688941.pdf?src-supplier=Digi-Key; ComponentLink3Description: https://datasheet.ciiva.com/1688/cd00146130-1688941.pdf?src-supplier=Digi-Key; ComponentLink4URL: https://datasheet.ciiva.com/1688/cd00146130-1688942.pdf?src-supplier=Digi-Key; ComponentLink4Description: https://datasheet.ciiva.com/1688/cd00146130-1688942.pdf?src-supplier=Digi-Key; ComponentLink5URL: https://datasheet.ciiva.com/1688/cd00146130-1688943.pdf?src-supplier=Digi-Key; ComponentLink5Description: https://datasheet.ciiva.com/1688/cd00146130-1688943.pdf?src-supplier=Digi-Key; Supplier Part Number 1: 511-STG3482QTR
footprint STG3482QTR
pins: 1 1S4, 2 VCC, 3 1SEL, 4 2S1, 6 2S2, 7 D2, 8 2S3, 9 2S4, 10 2SEL, 11 GND, 12 1S1, 13 /OE, 14 1S2, 15 D1, 16 1S3

## TMUX1208RSVR
designator U?
5-V, 8: 1, 1-channel general-purpose analog multiplexer with 1.8-V input logic 16-UQFN -40 to 125; Manufacturer: Texas Instruments; Manufacturer Part Number: TMUX1208RSVR; Supplier 1: Mouser; RoHS: Yes; Category: Decoders and Multiplexers; Stock 1: 2067; Pricing 1: 1=0.97000, 10=0.84700, 50=0.84700, 100=0.64900, 250=0.60300, 500=0.51400, 1000=0.41100, 3000=0.37200, 10000=0.37200 (USD); RoHS Compliant: Yes; ComponentLink1URL: http://www.ti.com/general/docs/suppproductinfo.tsp?distId=10&amp;gotoUrl=http%3A%2F%2Fwww.ti.com%2Flit%2Fgpn%2Ftmux1208&src-supplier=Digi-Key; ComponentLink1Description: http://www.ti.com/general/docs/suppproductinfo.tsp?distId=10&amp;gotoUrl=http%3A%2F%2Fwww.ti.com%2Flit%2Fgpn%2Ftmux1208&src-supplier=Digi-Key; Supplier Part Number 1: 595-TMUX1208RSVR
footprint FP-RSV0016A-MFG
pins: 1 NC, 2 S1 (io), 3 S2 (io), 4 S3 (io), 5 S4 (io), 6 D (io), 7 S8 (io), 8 S7 (io), 9 S6 (io), 10 S5 (io), 11 VDD (power), 12 GND (power), 13 A2 (in), 14 A1 (in), 15 A0, 16 EN (in)

## TXU0304DTRR
designator U?
Four-channel fixed multidirectional level shifter 12-X2QFN -40 to 125; Manufacturer: Texas Instruments; Supplier 1: Mouser; Manufacturer Part Number: TXU0304DTRR; RoHS: No; Pricing 1: 1=0.87000, 10=0.78200, 50=0.74200, 100=0.61000, 1000=0.39800, 10000=0.38500 (USD); Supplier Part Number 1: 595-TXU0304DTRR
footprint TXU0304DTR
pins: P1 VccA, P2 A1, P3 A2, P4 A3, P5 A4Y, P6 GND, P7 B4, P8 B3Y, P9 B2Y, P10 B1Y, P11 VccB, P12 OE

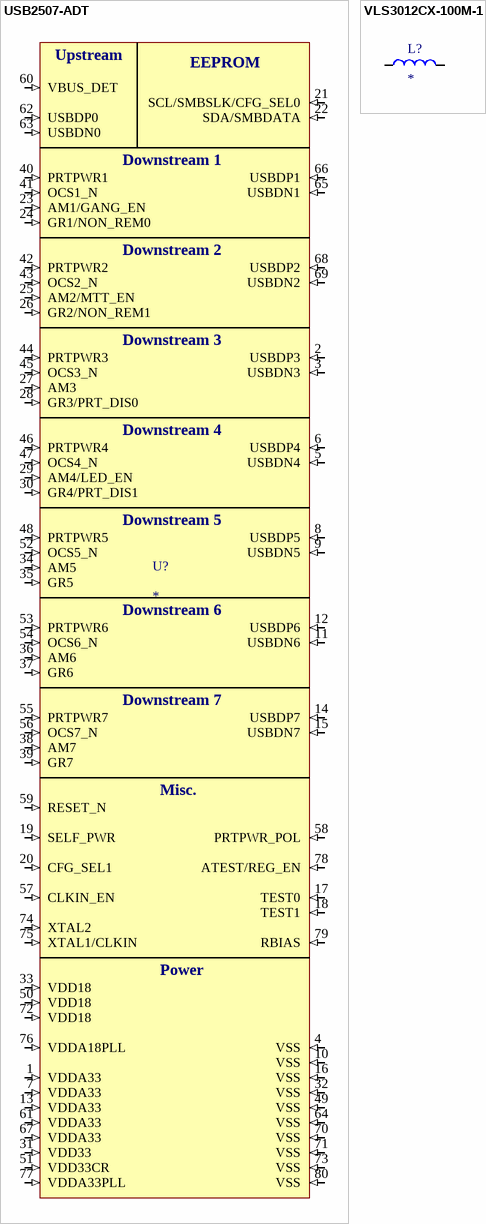
[diagram p1: symbols USB2507-ADT to VLS3012CX-100M-1]